# Altium footprint library SOT-223.PcbLib: 1 footprints
Each footprint in its own frame and in the unit in brackets; x right, y up, seen from the top. Pads: shape width x height; smd on the part's side, far side on the other; paste and mask are expansions set on the pad; w line width, h text height; cw(c..) or ccw(c..) is an arc to the next point about the centre after c.
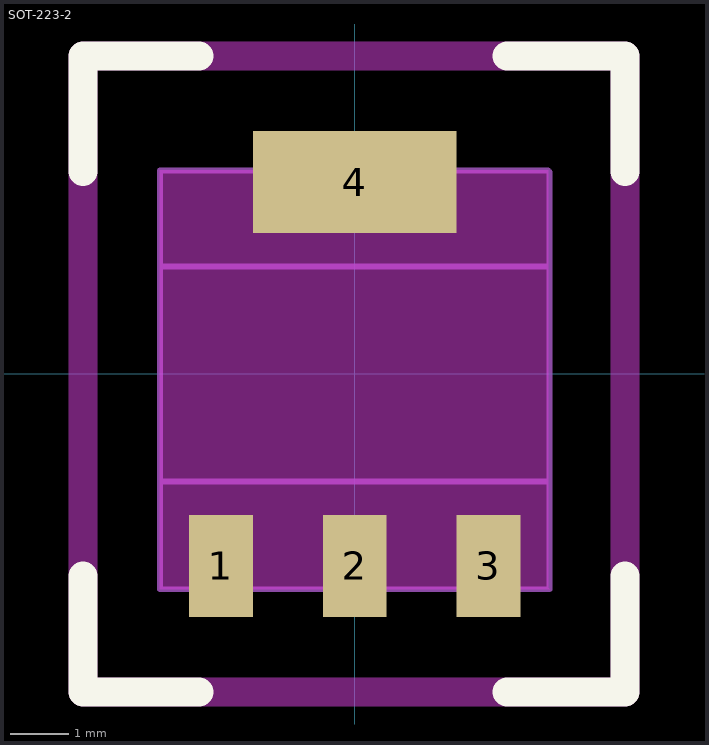
[diagram p0: the footprint, top view; thin cyan lines are the x and y axes]

## SOT-223-2 [mm] "SOT-223/SC-73; 4 Leads; Body 6.7 x 7.3 mm, inc. leads (LxW max)"
height 1.75
pads (4):
  rect 1.1x1.75 smd: 1(-2.3,-3.3) 2(0,-3.3) 3(2.3,-3.3)
  rect 3.5x1.75 smd: 4(0,3.3)
Top Overlay:
  lines w0.5: -4.675,-3.471 -4.675,-5.471 -2.675,-5.471 ; -4.675,3.48 -4.675,5.471 -2.675,5.471 ; 2.623,-5.471 4.65,-5.471 4.65,-3.471 ; 2.623,5.471 4.65,5.471 4.65,3.48
Keep-Out Layer:
  region: -3.35,3.5 3.325,3.5 3.325,-3.675 3.35,-3.7 -3.35,-3.7
  lines w0.5: -4.675,-5.471 -4.675,5.471 4.648,5.471 4.648,-5.471 -4.675,-5.471
Board Outline:
  lines w0.1: -3.35,-3.7 -3.35,3.5 3.325,3.5 3.35,3.475 3.35,-3.7 -3.35,-3.7
Top Dimension:
  lines w0.1: -3.35,-1.85 3.35,-1.85 3.35,1.85 -3.35,1.85 -3.35,-1.85
3D body "SOT-223-2.STEP": height 1.85, standoff -0.05, extent -3.35,-3.704 3.35,3.5